# Altium schematic symbol library Driver_LED.SchLib: 124 symbols (part 2 of 2)
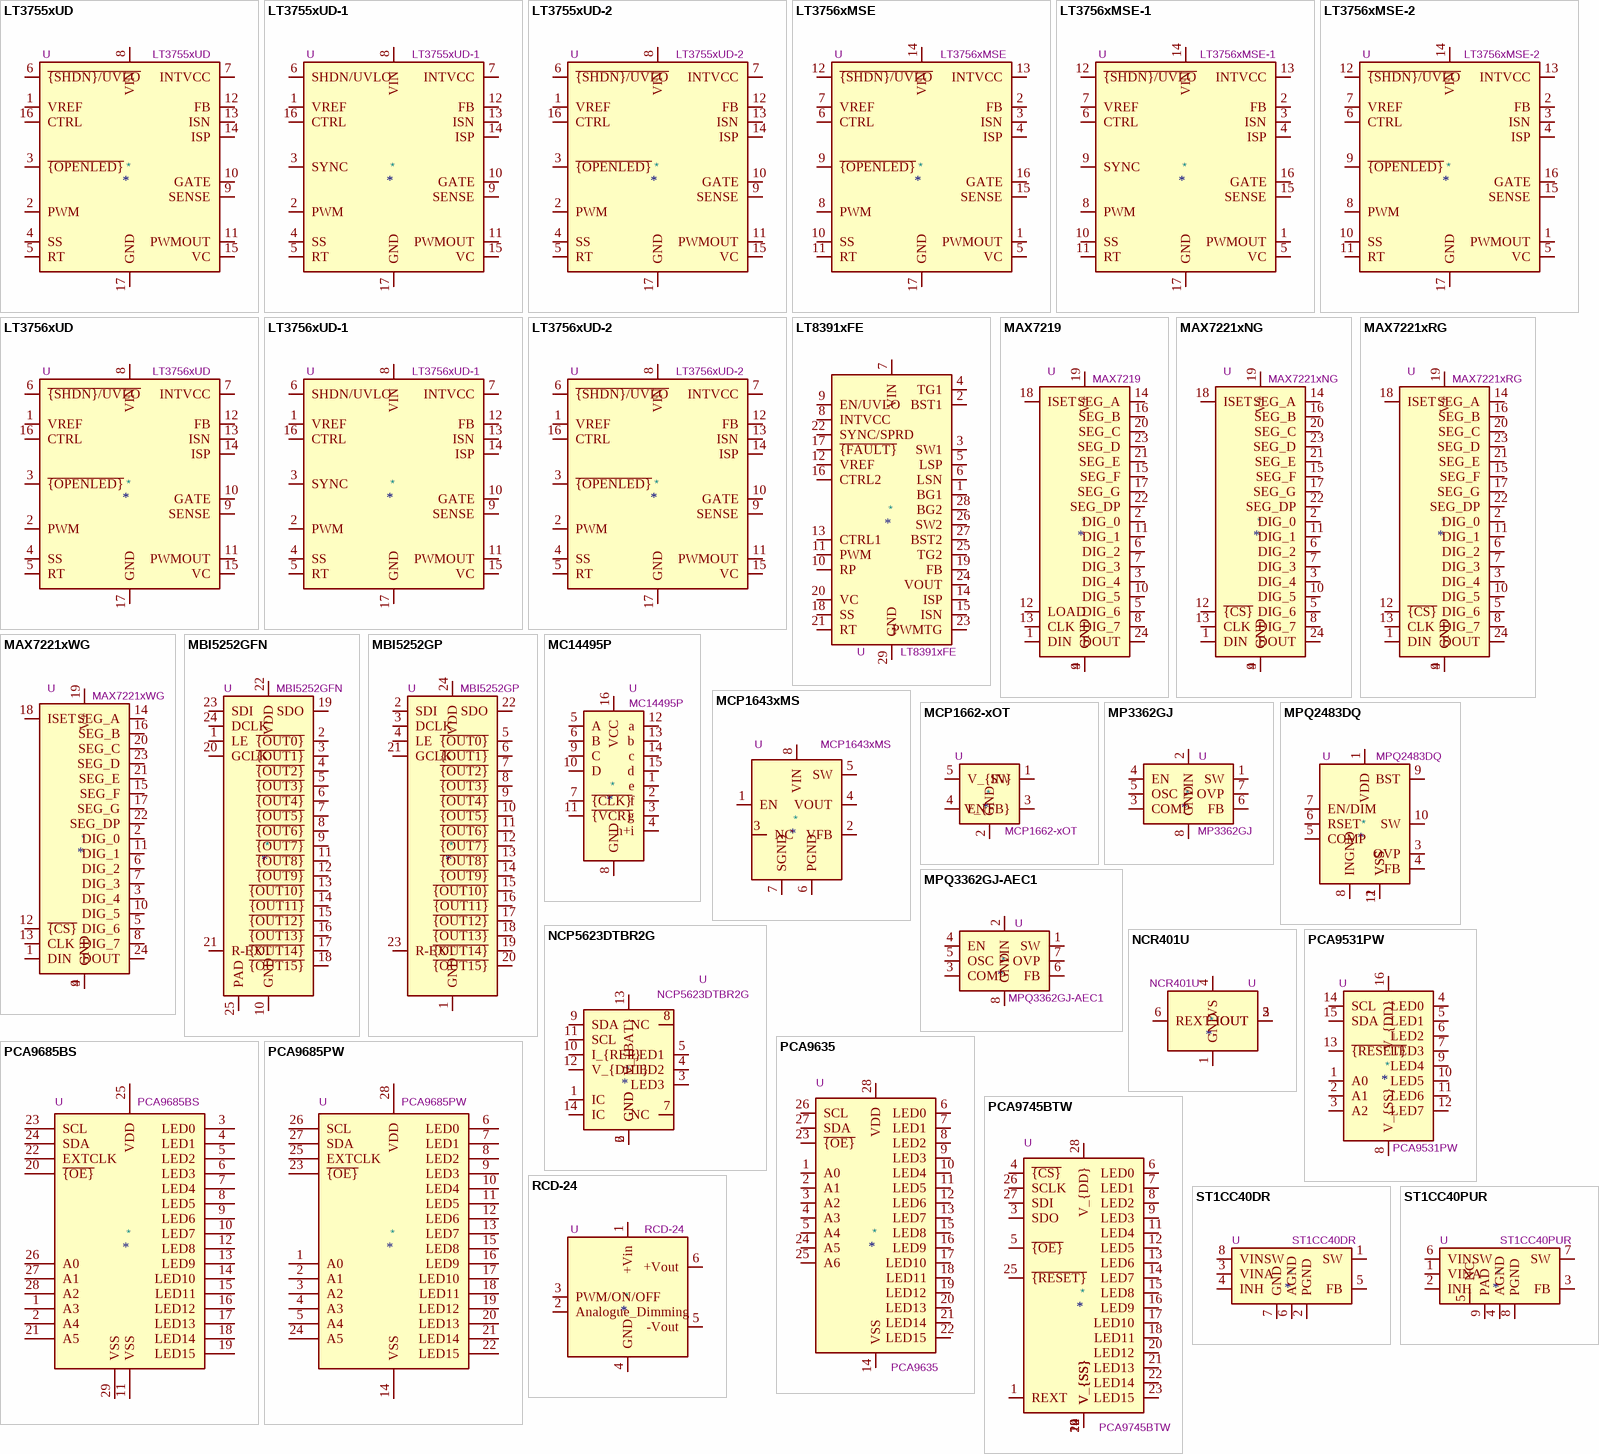
[diagram p5: symbols LT3755xUD to ST1CC40PUR]

## RCD-24
designator *  value RCD-24  Reference: U
LED Driver DC/DC Converter, input 4.5 to 36V, output current 0.3 to 1.2A; ki_keywords: Led Driver DC-DC; ki_fp_filters: Converter*DCDC*RECOM*RCD?24*; Footprint: Converter_DCDC:Converter_DCDC_RECOM_RCD-24_THT; Datasheet: https://g.recomcdn.com/media/Datasheet/pdf/.fYUQjOlW/.t2a80a771bdbb0ef300f7/Datasheet-93/RCD-24.pdf; Description_: LED Driver DC/DC Converter, input 4.5 to 36V, output current 0.3 to 1.2A
pins: 1 +Vin, 2 Analogue_Dimming, 3 PWM/ON/OFF, 4 GND, 5 -Vout, 6 +Vout

## ST1CC40DR
designator *  value ST1CC40DR  Reference: U
3A monolithic step-down current source with synchronous rectification, 3-18V Input Voltage, 850kHz, SO-8; ki_keywords: DC/DC Buck Conwerter 3A Low Voltage Input LED Lighting; ki_fp_filters: SOIC*3.9x4.9mm*P1.27mm*; Footprint: Package_SO:SOIC-8_3.9x4.9mm_P1.27mm; Datasheet: http://www.st.com/content/ccc/resource/technical/document/datasheet/group3/71/e8/26/3c/c8/cc/46/e6/CD00292360/files/CD00292360.pdf/jcr:content/translations/en.CD00292360.pdf; Description_: 3A monolithic step-down current source with synchronous rectification, 3-18V Input Voltage, 850kHz, SO-8
pins: 1 SW, 2 PGND, 3 VINA, 4 INH, 5 FB, 6 AGND, 7 GND, 8 VINSW

## ST1CC40PUR
designator *  value ST1CC40PUR  Reference: U
3A monolithic step-down current source with synchronous rectification, 3-18V Input Voltage, 850kHz, DFN-8; ki_keywords: DC/DC Buck Conwerter 3A Low Voltage Input LED Lighting; ki_fp_filters: DFN*1EP*4x4mm*P0.8mm*; Footprint: Package_DFN_QFN:DFN-8-1EP_4x4mm_P0.8mm_EP2.5x3.6mm; Datasheet: http://www.st.com/content/ccc/resource/technical/document/datasheet/group3/71/e8/26/3c/c8/cc/46/e6/CD00292360/files/CD00292360.pdf/jcr:content/translations/en.CD00292360.pdf; Description_: 3A monolithic step-down current source with synchronous rectification, 3-18V Input Voltage, 850kHz, DFN-8
pins: 1 VINA, 2 INH, 3 FB, 4 AGND, 5 NC, 6 VINSW, 7 SW, 8 PGND, 9 PAD

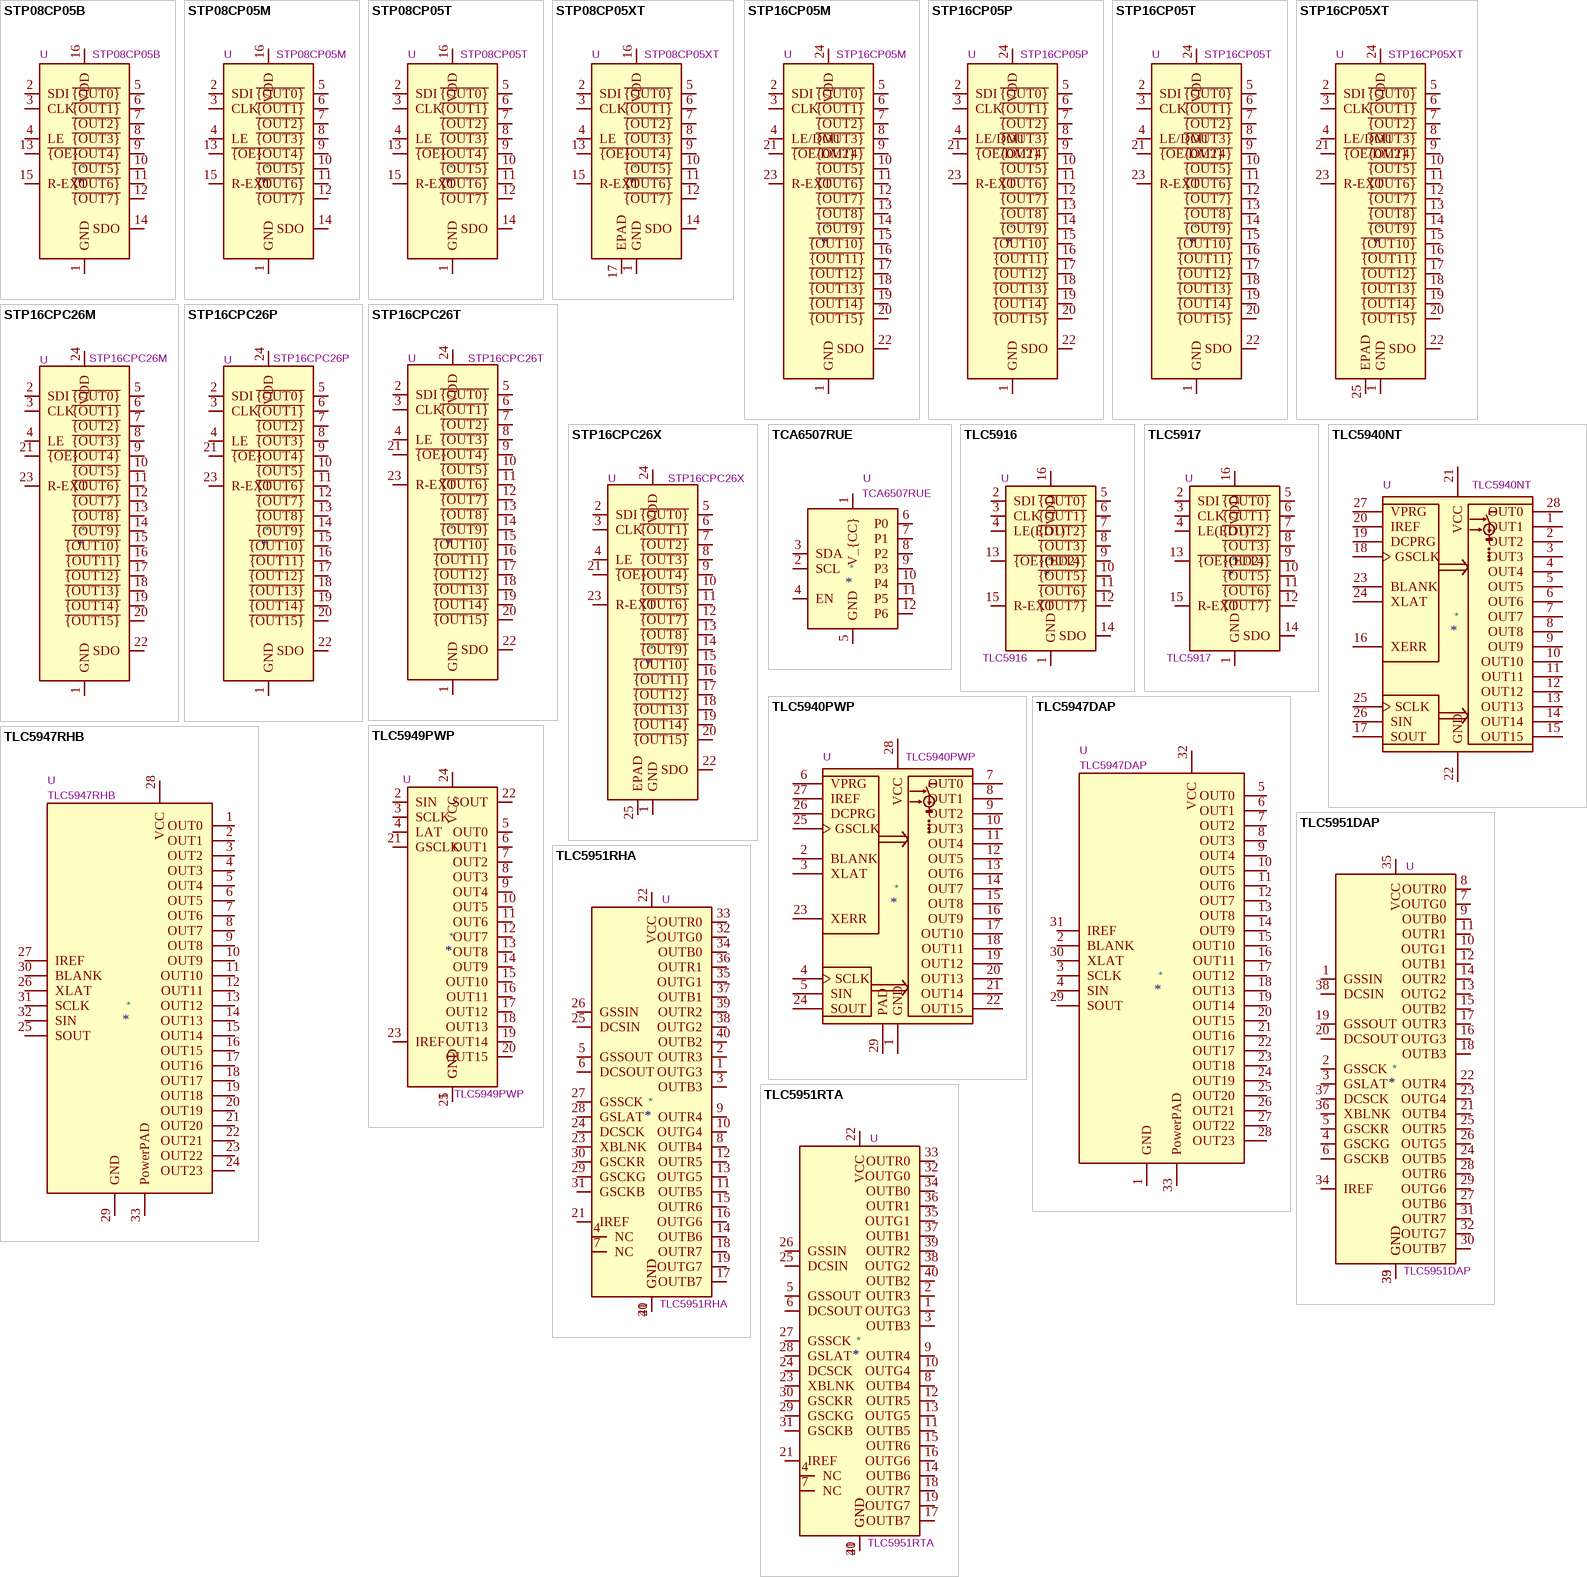
[diagram p3: symbols STP08CP05B to TLC5951RTA]

## STP08CP05B
designator *  value STP08CP05B  Reference: U
8-bit constant current LED sink driver, 5..100mA output current, 20V driving capability, 3.0..5.5V power supply, DIP-16; ki_keywords: Shift Register; ki_fp_filters: *DIP*W7.62mm*; Footprint: Package_DIP:DIP-16_W7.62mm; Datasheet: https://www.st.com/resource/en/datasheet/stp08cp05.pdf; Description_: 8-bit constant current LED sink driver, 5..100mA output current, 20V driving capability, 3.0..5.5V power supply, DIP-16
pins: 1 GND, 2 SDI, 3 CLK, 4 LE, 5 ~{{OUT0}}, 6 ~{{OUT1}}, 7 ~{{OUT2}}, 8 ~{{OUT3}}, 9 ~{{OUT4}}, 10 ~{{OUT5}}, 11 ~{{OUT6}}, 12 ~{{OUT7}}, 13 ~{{OE}}, 14 SDO, 15 R-EXT, 16 VDD

## STP08CP05M
designator *  value STP08CP05M  Reference: U
8-bit constant current LED sink driver, 5..100mA output current, 20V driving capability, 3.0..5.5V power supply, SOIC-16; ki_keywords: Shift Register; ki_fp_filters: *SOIC*3.9*9.9*P1.27mm*; Footprint: Package_SO:SOIC-16_3.9x9.9mm_P1.27mm; Datasheet: https://www.st.com/resource/en/datasheet/stp08cp05.pdf; Description_: 8-bit constant current LED sink driver, 5..100mA output current, 20V driving capability, 3.0..5.5V power supply, SOIC-16
pins: 1 GND, 2 SDI, 3 CLK, 4 LE, 5 ~{{OUT0}}, 6 ~{{OUT1}}, 7 ~{{OUT2}}, 8 ~{{OUT3}}, 9 ~{{OUT4}}, 10 ~{{OUT5}}, 11 ~{{OUT6}}, 12 ~{{OUT7}}, 13 ~{{OE}}, 14 SDO, 15 R-EXT, 16 VDD

## STP08CP05T
designator *  value STP08CP05T  Reference: U
8-bit constant current LED sink driver, 5..100mA output current, 20V driving capability, 3.0..5.5V power supply, TSSOP-16; ki_keywords: Shift Register; ki_fp_filters: *TSSOP*4.4*5**P0.65mm*; Footprint: Package_SO:TSSOP-16_4.4x5mm_P0.65mm; Datasheet: https://www.st.com/resource/en/datasheet/stp08cp05.pdf; Description_: 8-bit constant current LED sink driver, 5..100mA output current, 20V driving capability, 3.0..5.5V power supply, TSSOP-16
pins: 1 GND, 2 SDI, 3 CLK, 4 LE, 5 ~{{OUT0}}, 6 ~{{OUT1}}, 7 ~{{OUT2}}, 8 ~{{OUT3}}, 9 ~{{OUT4}}, 10 ~{{OUT5}}, 11 ~{{OUT6}}, 12 ~{{OUT7}}, 13 ~{{OE}}, 14 SDO, 15 R-EXT, 16 VDD

## STP08CP05XT
designator *  value STP08CP05XT  Reference: U
8-bit constant current LED sink driver, 5..100mA output current, 20V driving capability, 3.0..5.5V power supply, HTSSOP-16; ki_keywords: Shift Register; ki_fp_filters: HTSSOP*1EP*4.4*5*P0.65mm*EP3x3mm*; Footprint: Package_SO:HTSSOP-16-1EP_4.4x5mm_P0.65mm_EP3x3mm; Datasheet: https://www.st.com/resource/en/datasheet/stp08cp05.pdf; Description_: 8-bit constant current LED sink driver, 5..100mA output current, 20V driving capability, 3.0..5.5V power supply, HTSSOP-16
pins: 1 GND, 2 SDI, 3 CLK, 4 LE, 5 ~{{OUT0}}, 6 ~{{OUT1}}, 7 ~{{OUT2}}, 8 ~{{OUT3}}, 9 ~{{OUT4}}, 10 ~{{OUT5}}, 11 ~{{OUT6}}, 12 ~{{OUT7}}, 13 ~{{OE}}, 14 SDO, 15 R-EXT, 16 VDD, 17 EPAD

## STP16CP05M
designator *  value STP16CP05M  Reference: U
16-bit constant current LED sink driver, 5..100mA output current, 20V driving capability, 3.0..5.5V power supply, SOIC-24; ki_keywords: Shift Register; ki_fp_filters: *SOIC*7.5*15.*P1.27mm*; Footprint: Package_SO:SOIC-24W_7.5x15.4mm_P1.27mm; Datasheet: https://www.st.com/resource/en/datasheet/stp16cp05.pdf; Description_: 16-bit constant current LED sink driver, 5..100mA output current, 20V driving capability, 3.0..5.5V power supply, SOIC-24
pins: 1 GND, 2 SDI, 3 CLK, 4 LE/DM1, 5 ~{{OUT0}}, 6 ~{{OUT1}}, 7 ~{{OUT2}}, 8 ~{{OUT3}}, 9 ~{{OUT4}}, 10 ~{{OUT5}}, 11 ~{{OUT6}}, 12 ~{{OUT7}}, 13 ~{{OUT8}}, 14 ~{{OUT9}}, 15 ~{{OUT10}}, 16 ~{{OUT11}}, 17 ~{{OUT12}}, 18 ~{{OUT13}}, 19 ~{{OUT14}}, 20 ~{{OUT15}}, 21 ~{{OE/DM2}}, 22 SDO, 23 R-EXT, 24 VDD

## STP16CP05P
designator *  value STP16CP05P  Reference: U
16-bit constant current LED sink driver, 5..100mA output current, 20V driving capability, 3.0..5.5V power supply, QSOP-24; ki_keywords: Shift Register; ki_fp_filters: *QSOP*3.9*8.*P0.635mm*; Footprint: Package_SO:QSOP-24_3.9x8.7mm_P0.635mm; Datasheet: https://www.st.com/resource/en/datasheet/stp16cp05.pdf; Description_: 16-bit constant current LED sink driver, 5..100mA output current, 20V driving capability, 3.0..5.5V power supply, QSOP-24
pins: 1 GND, 2 SDI, 3 CLK, 4 LE/DM1, 5 ~{{OUT0}}, 6 ~{{OUT1}}, 7 ~{{OUT2}}, 8 ~{{OUT3}}, 9 ~{{OUT4}}, 10 ~{{OUT5}}, 11 ~{{OUT6}}, 12 ~{{OUT7}}, 13 ~{{OUT8}}, 14 ~{{OUT9}}, 15 ~{{OUT10}}, 16 ~{{OUT11}}, 17 ~{{OUT12}}, 18 ~{{OUT13}}, 19 ~{{OUT14}}, 20 ~{{OUT15}}, 21 ~{{OE/DM2}}, 22 SDO, 23 R-EXT, 24 VDD

## STP16CP05T
designator *  value STP16CP05T  Reference: U
16-bit constant current LED sink driver, 5..100mA output current, 20V driving capability, 3.0..5.5V power supply, SOIC-24; ki_keywords: Shift Register; ki_fp_filters: *TSSOP*4.4*7.8*P0.65mm*; Footprint: Package_SO:TSSOP-24_4.4x7.8mm_P0.65mm; Datasheet: https://www.st.com/resource/en/datasheet/stp16cp05.pdf; Description_: 16-bit constant current LED sink driver, 5..100mA output current, 20V driving capability, 3.0..5.5V power supply, SOIC-24
pins: 1 GND, 2 SDI, 3 CLK, 4 LE/DM1, 5 ~{{OUT0}}, 6 ~{{OUT1}}, 7 ~{{OUT2}}, 8 ~{{OUT3}}, 9 ~{{OUT4}}, 10 ~{{OUT5}}, 11 ~{{OUT6}}, 12 ~{{OUT7}}, 13 ~{{OUT8}}, 14 ~{{OUT9}}, 15 ~{{OUT10}}, 16 ~{{OUT11}}, 17 ~{{OUT12}}, 18 ~{{OUT13}}, 19 ~{{OUT14}}, 20 ~{{OUT15}}, 21 ~{{OE/DM2}}, 22 SDO, 23 R-EXT, 24 VDD

## STP16CP05XT
designator *  value STP16CP05XT  Reference: U
16-bit constant current LED sink driver, 5..100mA output current, 20V driving capability, 3.0..5.5V power supply, HTSSOP-24; ki_keywords: Shift-Register; ki_fp_filters: *HTSSOP*1EP*4.4*7.8*P0.65mm*EP3.2x5mm*; Footprint: Package_SO:HTSSOP-24-1EP_4.4x7.8mm_P0.65mm_EP3.2x5mm; Datasheet: https://www.st.com/resource/en/datasheet/stp16cp05.pdf; Description_: 16-bit constant current LED sink driver, 5..100mA output current, 20V driving capability, 3.0..5.5V power supply, HTSSOP-24
pins: 1 GND, 2 SDI, 3 CLK, 4 LE/DM1, 5 ~{{OUT0}}, 6 ~{{OUT1}}, 7 ~{{OUT2}}, 8 ~{{OUT3}}, 9 ~{{OUT4}}, 10 ~{{OUT5}}, 11 ~{{OUT6}}, 12 ~{{OUT7}}, 13 ~{{OUT8}}, 14 ~{{OUT9}}, 15 ~{{OUT10}}, 16 ~{{OUT11}}, 17 ~{{OUT12}}, 18 ~{{OUT13}}, 19 ~{{OUT14}}, 20 ~{{OUT15}}, 21 ~{{OE/DM2}}, 22 SDO, 23 R-EXT, 24 VDD, 25 EPAD

## STP16CPC26M
designator *  value STP16CPC26M  Reference: U
16-bit constant current LED sink driver, 5..90mA output current, 20V driving capability, 3..5.5V power supply, SOIC-24; ki_keywords: Shift Register; ki_fp_filters: *SOIC*7.5*15.*P1.27mm*; Footprint: Package_SO:SOIC-24W_7.5x15.4mm_P1.27mm; Datasheet: https://www.st.com/resource/en/datasheet/STP16CPC26.pdf; Description_: 16-bit constant current LED sink driver, 5..90mA output current, 20V driving capability, 3..5.5V power supply, SOIC-24
pins: 1 GND, 2 SDI, 3 CLK, 4 LE, 5 ~{{OUT0}}, 6 ~{{OUT1}}, 7 ~{{OUT2}}, 8 ~{{OUT3}}, 9 ~{{OUT4}}, 10 ~{{OUT5}}, 11 ~{{OUT6}}, 12 ~{{OUT7}}, 13 ~{{OUT8}}, 14 ~{{OUT9}}, 15 ~{{OUT10}}, 16 ~{{OUT11}}, 17 ~{{OUT12}}, 18 ~{{OUT13}}, 19 ~{{OUT14}}, 20 ~{{OUT15}}, 21 ~{{OE}}, 22 SDO, 23 R-EXT, 24 VDD

## STP16CPC26P
designator *  value STP16CPC26P  Reference: U
16-bit constant current LED sink driver, 5..90mA output current, 20V driving capability, 3..5.5V power supply, QSOP-24; ki_keywords: Shift Register; ki_fp_filters: *QSOP*3.9*8.*P0.635mm*; Footprint: Package_SO:QSOP-24_3.9x8.7mm_P0.635mm; Datasheet: https://www.st.com/resource/en/datasheet/STP16CPC26.pdf; Description_: 16-bit constant current LED sink driver, 5..90mA output current, 20V driving capability, 3..5.5V power supply, QSOP-24
pins: 1 GND, 2 SDI, 3 CLK, 4 LE, 5 ~{{OUT0}}, 6 ~{{OUT1}}, 7 ~{{OUT2}}, 8 ~{{OUT3}}, 9 ~{{OUT4}}, 10 ~{{OUT5}}, 11 ~{{OUT6}}, 12 ~{{OUT7}}, 13 ~{{OUT8}}, 14 ~{{OUT9}}, 15 ~{{OUT10}}, 16 ~{{OUT11}}, 17 ~{{OUT12}}, 18 ~{{OUT13}}, 19 ~{{OUT14}}, 20 ~{{OUT15}}, 21 ~{{OE}}, 22 SDO, 23 R-EXT, 24 VDD

## STP16CPC26T
designator *  value STP16CPC26T  Reference: U
16-bit constant current LED sink driver, 5..90mA output current, 20V driving capability, 3..5.5V power supply, TSSOP-24; ki_keywords: Shift Register; ki_fp_filters: *TSSOP*4.4*7.*P0.65mm*; Footprint: Package_SO:TSSOP-24_4.4x7.8mm_P0.65mm; Datasheet: https://www.st.com/resource/en/datasheet/STP16CPC26.pdf; Description_: 16-bit constant current LED sink driver, 5..90mA output current, 20V driving capability, 3..5.5V power supply, TSSOP-24
pins: 1 GND, 2 SDI, 3 CLK, 4 LE, 5 ~{{OUT0}}, 6 ~{{OUT1}}, 7 ~{{OUT2}}, 8 ~{{OUT3}}, 9 ~{{OUT4}}, 10 ~{{OUT5}}, 11 ~{{OUT6}}, 12 ~{{OUT7}}, 13 ~{{OUT8}}, 14 ~{{OUT9}}, 15 ~{{OUT10}}, 16 ~{{OUT11}}, 17 ~{{OUT12}}, 18 ~{{OUT13}}, 19 ~{{OUT14}}, 20 ~{{OUT15}}, 21 ~{{OE}}, 22 SDO, 23 R-EXT, 24 VDD

## STP16CPC26X
designator *  value STP16CPC26X  Reference: U
16-bit constant current LED sink driver, 5..90mA output current, 20V driving capability, 3..5.5V power supply, HTSSOP-24; ki_keywords: Shift-Register; ki_fp_filters: *HTSSOP*1EP*4.4*7.*P0.65*EP3.2x5mm*; Footprint: Package_SO:HTSSOP-24-1EP_4.4x7.8mm_P0.65mm_EP3.2x5mm; Datasheet: https://www.st.com/resource/en/datasheet/STP16CPC26.pdf; Description_: 16-bit constant current LED sink driver, 5..90mA output current, 20V driving capability, 3..5.5V power supply, HTSSOP-24
pins: 1 GND, 2 SDI, 3 CLK, 4 LE, 5 ~{{OUT0}}, 6 ~{{OUT1}}, 7 ~{{OUT2}}, 8 ~{{OUT3}}, 9 ~{{OUT4}}, 10 ~{{OUT5}}, 11 ~{{OUT6}}, 12 ~{{OUT7}}, 13 ~{{OUT8}}, 14 ~{{OUT9}}, 15 ~{{OUT10}}, 16 ~{{OUT11}}, 17 ~{{OUT12}}, 18 ~{{OUT13}}, 19 ~{{OUT14}}, 20 ~{{OUT15}}, 21 ~{{OE}}, 22 SDO, 23 R-EXT, 24 VDD, 25 EPAD

## TCA6507RUE
designator *  value TCA6507RUE  Reference: U
7-bit I2C/SMBus LED driver with intensity control, X2QFN-12; ki_keywords: led driver i2c 7-bit; ki_fp_filters: *X2QFN*RUE*; Footprint: Package_DFN_QFN:Texas_X2QFN-RUE-12_1.4x2mm_P0.4mm; Datasheet: https://www.ti.com/lit/gpn/tca6507; Description_: 7-bit I2C/SMBus LED driver with intensity control, X2QFN-12
pins: 1 V_{CC}, 2 SCL, 3 SDA, 4 EN, 5 GND, 6 P0, 7 P1, 8 P2, 9 P3, 10 P4, 11 P5, 12 P6

## TLC5916
designator *  value TLC5916  Reference: U
8-Channel Constant-Current LED Sink Driver; ki_keywords: LED Constant-Current Driver; ki_fp_filters: DIP*W7.62mm* SOIC*3.9x9.9mm*P1.27mm* TSSOP*4.4x5mm*P0.65mm*; Datasheet: https://www.ti.com/lit/ds/symlink/tlc5916.pdf; Description_: 8-Channel Constant-Current LED Sink Driver
pins: 1 GND, 2 SDI, 3 CLK, 4 LE(ED1), 5 ~{{OUT0}}, 6 ~{{OUT1}}, 7 ~{{OUT2}}, 8 ~{{OUT3}}, 9 ~{{OUT4}}, 10 ~{{OUT5}}, 11 ~{{OUT6}}, 12 ~{{OUT7}}, 13 ~{{OE}(ED2)}, 14 SDO, 15 R-EXT, 16 VDD

## TLC5917
designator *  value TLC5917  Reference: U
8-Channel Constant-Current LED Sink Driver, Short to VLED detection; ki_keywords: LED Constant-Current Driver; ki_fp_filters: DIP*W7.62mm* SOIC*3.9x9.9mm*P1.27mm* TSSOP*4.4x5mm*P0.65mm*; Datasheet: https://www.ti.com/lit/ds/symlink/tlc5917.pdf; Description_: 8-Channel Constant-Current LED Sink Driver, Short to VLED detection
pins: 1 GND, 2 SDI, 3 CLK, 4 LE(ED1), 5 ~{{OUT0}}, 6 ~{{OUT1}}, 7 ~{{OUT2}}, 8 ~{{OUT3}}, 9 ~{{OUT4}}, 10 ~{{OUT5}}, 11 ~{{OUT6}}, 12 ~{{OUT7}}, 13 ~{{OE}(ED2)}, 14 SDO, 15 R-EXT, 16 VDD

## TLC5940NT
designator *  value TLC5940NT  Reference: U
16-Channel LED Driver With DOT Correction and Grayscale PWM Control, DIP package; ki_keywords: PWM LED driver; ki_fp_filters: DIP*W7.62mm*; Footprint: Package_DIP:DIP-28_W7.62mm; Datasheet: http://www.ti.com/lit/ds/symlink/tlc5940.pdf; Description_: 16-Channel LED Driver With DOT Correction and Grayscale PWM Control, DIP package
pins: 1 OUT1, 2 OUT2, 3 OUT3, 4 OUT4, 5 OUT5, 6 OUT6, 7 OUT7, 8 OUT8, 9 OUT9, 10 OUT10, 11 OUT11, 12 OUT12, 13 OUT13, 14 OUT14, 15 OUT15, 16 XERR, 17 SOUT, 18 GSCLK, 19 DCPRG, 20 IREF, 21 VCC, 22 GND, 23 BLANK, 24 XLAT, 25 SCLK, 26 SIN, 27 VPRG, 28 OUT0

## TLC5940PWP
designator *  value TLC5940PWP  Reference: U
16-Channel LED Driver With DOT Correction and Grayscale PWM Control, TSSOP package with thermal pad; ki_keywords: PWM LED driver; ki_fp_filters: HTSSOP*4.4x9.7mm*P0.65mm*; Footprint: Package_SO:HTSSOP-28-1EP_4.4x9.7mm_P0.65mm_EP3.4x9.5mm_Mask2.4x6.17mm_ThermalVias; Datasheet: http://www.ti.com/lit/ds/symlink/tlc5940.pdf; Description_: 16-Channel LED Driver With DOT Correction and Grayscale PWM Control, TSSOP package with thermal pad
pins: 1 GND, 2 BLANK, 3 XLAT, 4 SCLK, 5 SIN, 6 VPRG, 7 OUT0, 8 OUT1, 9 OUT2, 10 OUT3, 11 OUT4, 12 OUT5, 13 OUT6, 14 OUT7, 15 OUT8, 16 OUT9, 17 OUT10, 18 OUT11, 19 OUT12, 20 OUT13, 21 OUT14, 22 OUT15, 23 XERR, 24 SOUT, 25 GSCLK, 26 DCPRG, 27 IREF, 28 VCC, 29 PAD

## TLC5947DAP
designator *  value TLC5947DAP  Reference: U
24-Channel, 12-Bit PWM LED Driver, HTSSOP; ki_keywords: PWM LED driver HTSSOP; ki_fp_filters: HTSSOP*; Footprint: Package_SO:HTSSOP-32-1EP_6.1x11mm_P0.65mm_EP5.2x11mm_Mask4.11x4.36mm_ThermalVias; Datasheet: http://www.ti.com/lit/ds/symlink/tlc5947.pdf; Description_: 24-Channel, 12-Bit PWM LED Driver, HTSSOP
pins: 1 GND, 2 BLANK, 3 SCLK, 4 SIN, 5 OUT0, 6 OUT1, 7 OUT2, 8 OUT3, 9 OUT4, 10 OUT5, 11 OUT6, 12 OUT7, 13 OUT8, 14 OUT9, 15 OUT10, 16 OUT11, 17 OUT12, 18 OUT13, 19 OUT14, 20 OUT15, 21 OUT16, 22 OUT17, 23 OUT18, 24 OUT19, 25 OUT20, 26 OUT21, 27 OUT22, 28 OUT23, 29 SOUT, 30 XLAT, 31 IREF, 32 VCC, 33 PowerPAD

## TLC5947RHB
designator *  value TLC5947RHB  Reference: U
24-Channel, 12-Bit PWM LED Driver, QFN; ki_keywords: PWM LED driver QFN; ki_fp_filters: QFN*5x5mm*; Footprint: Package_DFN_QFN:QFN-32-1EP_5x5mm_P0.5mm_EP3.45x3.45mm; Datasheet: http://www.ti.com/lit/ds/symlink/tlc5947.pdf; Description_: 24-Channel, 12-Bit PWM LED Driver, QFN
pins: 1 OUT0, 2 OUT1, 3 OUT2, 4 OUT3, 5 OUT4, 6 OUT5, 7 OUT6, 8 OUT7, 9 OUT8, 10 OUT9, 11 OUT10, 12 OUT11, 13 OUT12, 14 OUT13, 15 OUT14, 16 OUT15, 17 OUT16, 18 OUT17, 19 OUT18, 20 OUT19, 21 OUT20, 22 OUT21, 23 OUT22, 24 OUT23, 25 SOUT, 26 XLAT, 27 IREF, 28 VCC, 29 GND, 30 BLANK, 31 SCLK, 32 SIN, 33 PowerPAD

## TLC5949PWP
designator *  value TLC5949PWP  Reference: U
16-channel, 12-bit ES-PWM, constant-current sink LED driver, HTSSOP-24; ki_keywords: Texas-Instruments; ki_fp_filters: *HTSSOP*1EP?4.4x7.8mm?P0.65mm*Mask2.44x3.42mm*; Footprint: Package_SO:HTSSOP-24-1EP_4.4x7.8mm_P0.65mm_EP3.4x7.8mm_Mask2.44x3.42mm_ThermalVias; Datasheet: https://www.ti.com/lit/ds/symlink/tlc5949.pdf; Description_: 16-channel, 12-bit ES-PWM, constant-current sink LED driver, HTSSOP-24
pins: 1 GND, 2 SIN, 3 SCLK, 4 LAT, 5 OUT0, 6 OUT1, 7 OUT2, 8 OUT3, 9 OUT4, 10 OUT5, 11 OUT6, 12 OUT7, 13 OUT8, 14 OUT9, 15 OUT10, 16 OUT11, 17 OUT12, 18 OUT13, 19 OUT14, 20 OUT15, 21 GSCLK, 22 SOUT, 23 IREF, 24 VCC, 25 GND

## TLC5951DAP
designator *  value TLC5951DAP  Reference: U
24-Channel, 12-Bit PWM LED Driver With 7-Bit Dot Correction and 3-Group, 8-Bit Global Brightness Control, HTSSOP-38; ki_fp_filters: HTSSOP*1EP*6.1x12.5mm*P0.65mm*; Footprint: Package_SO:HTSSOP-38-1EP_6.1x12.5mm_P0.65mm_EP5.2x12.5mm_Mask3.39x6.35mm_ThermalVias; Datasheet: http://www.ti.com/lit/ds/symlink/tlc5951.pdf; Description_: 24-Channel, 12-Bit PWM LED Driver With 7-Bit Dot Correction and 3-Group, 8-Bit Global Brightness Control, HTSSOP-38; ki_keywords: led driver
pins: 1 GSSIN, 2 GSSCK, 3 GSLAT, 4 GSCKG, 5 GSCKR, 6 GSCKB, 7 OUTG0, 8 OUTR0, 9 OUTB0, 10 OUTG1, 11 OUTR1, 12 OUTB1, 13 OUTG2, 14 OUTR2, 15 OUTB2, 16 OUTG3, 17 OUTR3, 18 OUTB3, 19 GSSOUT, 20 DCSOUT, 21 OUTB4, 22 OUTR4, 23 OUTG4, 24 OUTB5, 25 OUTR5, 26 OUTG5, 27 OUTB6, 28 OUTR6, 29 OUTG6, 30 OUTB7, 31 OUTR7, 32 OUTG7, 33 GND, 34 IREF, 35 VCC, 36 XBLNK, 37 DCSCK, 38 DCSIN, 39 GND

## TLC5951RHA
designator *  value TLC5951RHA  Reference: U
24-Channel, 12-Bit PWM LED Driver With 7-Bit Dot Correction and 3-Group, 8-Bit Global Brightness Control, Texas S-PVQFN-N40; ki_fp_filters: Texas*RHA0040B*; Footprint: Package_DFN_QFN:Texas_RHA0040B_VQFN-40-1EP_6x6mm_P0.5mm_EP4.15x4.15mm_ThermalVias; Datasheet: http://www.ti.com/lit/ds/symlink/tlc5951.pdf; Description_: 24-Channel, 12-Bit PWM LED Driver With 7-Bit Dot Correction and 3-Group, 8-Bit Global Brightness Control, Texas S-PVQFN-N40; ki_keywords: led driver
pins: 1 OUTG3, 2 OUTR3, 3 OUTB3, 4 NC, 5 GSSOUT, 6 DCSOUT, 7 NC, 8 OUTB4, 9 OUTR4, 10 OUTG4, 11 OUTB5, 12 OUTR5, 13 OUTG5, 14 OUTB6, 15 OUTR6, 16 OUTG6, 17 OUTB7, 18 OUTR7, 19 OUTG7, 20 GND, 21 IREF, 22 VCC, 23 XBLNK, 24 DCSCK, 25 DCSIN, 26 GSSIN, 27 GSSCK, 28 GSLAT, 29 GSCKG, 30 GSCKR, 31 GSCKB, 32 OUTG0, 33 OUTR0, 34 OUTB0, 35 OUTG1, 36 OUTR1, 37 OUTB1, 38 OUTG2, 39 OUTR2, 40 OUTB2, 41 GND

## TLC5951RTA
designator *  value TLC5951RTA  Reference: U
24-Channel, 12-Bit PWM LED Driver With 7-Bit Dot Correction and 3-Group, 8-Bit Global Brightness Control, Texas S-PVQFN-N40; ki_fp_filters: Texas*RHA0040B*; Footprint: Package_DFN_QFN:Texas_RHA0040B_VQFN-40-1EP_6x6mm_P0.5mm_EP4.15x4.15mm_ThermalVias; Datasheet: http://www.ti.com/lit/ds/symlink/tlc5951.pdf; Description_: 24-Channel, 12-Bit PWM LED Driver With 7-Bit Dot Correction and 3-Group, 8-Bit Global Brightness Control, Texas S-PVQFN-N40; ki_keywords: led driver
pins: 1 OUTG3, 2 OUTR3, 3 OUTB3, 4 NC, 5 GSSOUT, 6 DCSOUT, 7 NC, 8 OUTB4, 9 OUTR4, 10 OUTG4, 11 OUTB5, 12 OUTR5, 13 OUTG5, 14 OUTB6, 15 OUTR6, 16 OUTG6, 17 OUTB7, 18 OUTR7, 19 OUTG7, 20 GND, 21 IREF, 22 VCC, 23 XBLNK, 24 DCSCK, 25 DCSIN, 26 GSSIN, 27 GSSCK, 28 GSLAT, 29 GSCKG, 30 GSCKR, 31 GSCKB, 32 OUTG0, 33 OUTR0, 34 OUTB0, 35 OUTG1, 36 OUTR1, 37 OUTB1, 38 OUTG2, 39 OUTR2, 40 OUTB2, 41 GND

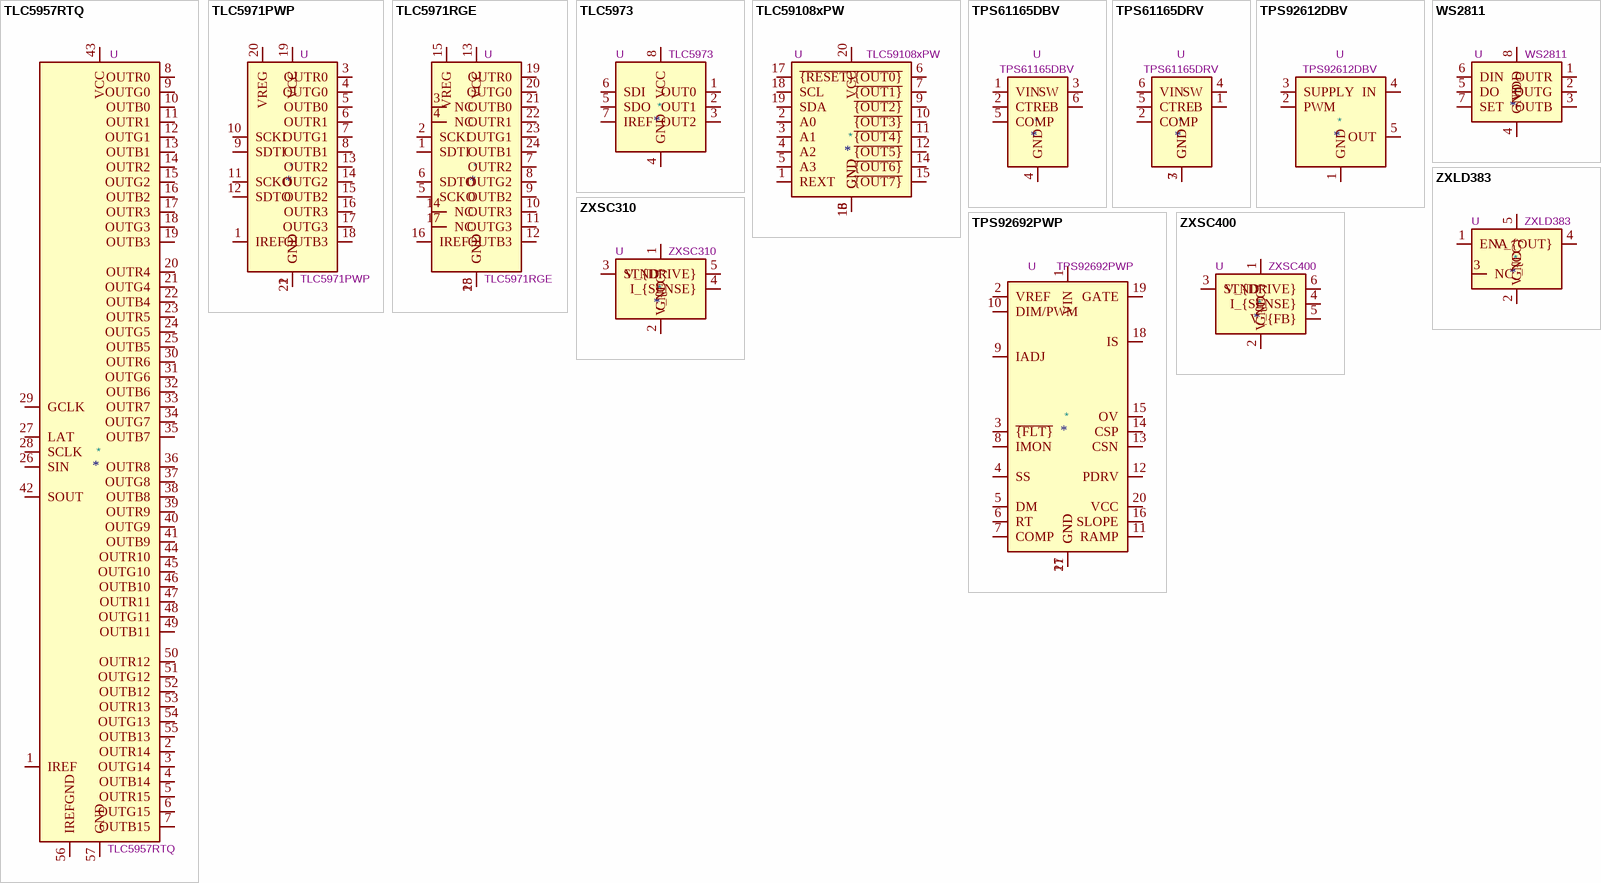
[diagram p4: symbols TLC5957RTQ to ZXSC400]

## TLC5957RTQ
designator *  value TLC5957RTQ  Reference: U
48-channel, 16bit ES-PWM LED driver with Pre-charge FET, LED OPEN Detection and Caterpillar Cancelling, QFN-56; ki_fp_filters: QFN*1EP*8x8mm*P0.5mm*; Footprint: Package_DFN_QFN:QFN-56-1EP_8x8mm_P0.5mm_EP5.6x5.6mm_ThermalVias; Datasheet: http://www.ti.com/lit/ds/symlink/tlc5957.pdf; Description_: 48-channel, 16bit ES-PWM LED driver with Pre-charge FET, LED OPEN Detection and Caterpillar Cancelling, QFN-56; ki_keywords: led driver
pins: 1 IREF, 2 OUTR14, 3 OUTG14, 4 OUTB14, 5 OUTR15, 6 OUTG15, 7 OUTB15, 8 OUTR0, 9 OUTG0, 10 OUTB0, 11 OUTR1, 12 OUTG1, 13 OUTB1, 14 OUTR2, 15 OUTG2, 16 OUTB2, 17 OUTR3, 18 OUTG3, 19 OUTB3, 20 OUTR4, 21 OUTG4, 22 OUTB4, 23 OUTR5, 24 OUTG5, 25 OUTB5, 26 SIN, 27 LAT, 28 SCLK, 29 GCLK, 30 OUTR6, 31 OUTG6, 32 OUTB6, 33 OUTR7, 34 OUTG7, 35 OUTB7, 36 OUTR8, 37 OUTG8, 38 OUTB8, 39 OUTR9, 40 OUTG9, 41 OUTB9, 42 SOUT, 43 VCC, 44 OUTR10, 45 OUTG10, 46 OUTB10, 47 OUTR11, 48 OUTG11, 49 OUTB11, 50 OUTR12, 51 OUTG12, 52 OUTB12, 53 OUTR13, 54 OUTG13, 55 OUTB13, 56 IREFGND, 57 GND

## TLC5971PWP
designator *  value TLC5971PWP  Reference: U
12-Channel, 16-Bit, Enhanced Spectrum, PWM, RGB, LED Driver With 3.3-V Linear Regulator, HTSSOP-20; ki_fp_filters: HTSSOP*1EP*4.4x6.5mm*P0.65mm*; Footprint: Package_SO:HTSSOP-20-1EP_4.4x6.5mm_P0.65mm_EP3.4x6.5mm_Mask2.75x3.43mm_ThermalVias; Datasheet: http://www.ti.com/lit/ds/symlink/tlc5971.pdf; Description_: 12-Channel, 16-Bit, Enhanced Spectrum, PWM, RGB, LED Driver With 3.3-V Linear Regulator, HTSSOP-20; ki_keywords: led driver
pins: 1 IREF, 2 GND, 3 OUTR0, 4 OUTG0, 5 OUTB0, 6 OUTR1, 7 OUTG1, 8 OUTB1, 9 SDTI, 10 SCKI, 11 SCKO, 12 SDTO, 13 OUTR2, 14 OUTG2, 15 OUTB2, 16 OUTR3, 17 OUTG3, 18 OUTB3, 19 VCC, 20 VREG, 21 GND

## TLC5971RGE
designator *  value TLC5971RGE  Reference: U
12-Channel, 16-Bit, Enhanced Spectrum, PWM, RGB, LED Driver With 3.3-V Linear Regulator, VQFN-24; ki_fp_filters: Texas*RGE0024H*; Footprint: Package_DFN_QFN:Texas_RGE0024H_VQFN-24-1EP_4x4mm_P0.5mm_EP2.7x2.7mm_ThermalVias; Datasheet: http://www.ti.com/lit/ds/symlink/tlc5971.pdf; Description_: 12-Channel, 16-Bit, Enhanced Spectrum, PWM, RGB, LED Driver With 3.3-V Linear Regulator, VQFN-24; ki_keywords: led driver
pins: 1 SDTI, 2 SCKI, 3 NC, 4 NC, 5 SCKO, 6 SDTO, 7 OUTR2, 8 OUTG2, 9 OUTB2, 10 OUTR3, 11 OUTG3, 12 OUTB3, 13 VCC, 14 NC, 15 VREG, 16 IREF, 17 NC, 18 GND, 19 OUTR0, 20 OUTG0, 21 OUTB0, 22 OUTR1, 23 OUTG1, 24 OUTB1, 25 GND

## TLC5973
designator *  value TLC5973  Reference: U
3 Channel 12bit PWM constant currend LED Driver with single wire interface; ki_keywords: LED current driver 12bit PWM; ki_fp_filters: SOIC*3.9x4.9mm*P1.27mm*; Footprint: Package_SO:SOIC-8_3.9x4.9mm_P1.27mm; Datasheet: http://www.ti.com/lit/ds/symlink/tlc5973.pdf; Description_: 3 Channel 12bit PWM constant currend LED Driver with single wire interface
pins: 1 OUT0, 2 OUT1, 3 OUT2, 4 GND, 5 SDO, 6 SDI, 7 IREF, 8 VCC

## TLC59108xPW
designator *  value TLC59108xPW  Reference: U
8-Channel, 8-Bit Fm+ I2C-Bus Constant-Current LED Sink Driver, TSSOP-20; ki_keywords: LED current driver; ki_fp_filters: TSSOP*4.4x6.5mm*P0.65mm*; Footprint: Package_SO:TSSOP-20_4.4x6.5mm_P0.65mm; Datasheet: https://www.ti.com/lit/ds/symlink/tlc59108.pdf; Description_: 8-Channel, 8-Bit Fm+ I2C-Bus Constant-Current LED Sink Driver, TSSOP-20
pins: 1 REXT, 2 A0, 3 A1, 4 A2, 5 A3, 6 ~{{OUT0}}, 7 ~{{OUT1}}, 8 GND, 9 ~{{OUT2}}, 10 ~{{OUT3}}, 11 ~{{OUT4}}, 12 ~{{OUT5}}, 13 GND, 14 ~{{OUT6}}, 15 ~{{OUT7}}, 16 GND, 17 ~{{RESET}}, 18 SCL, 19 SDA, 20 VCC

## TPS61165DBV
designator *  value TPS61165DBV  Reference: U
High-Brightness, White LED Driver, 3V to 18V input voltage range, internal switch, constant current, up to 38V/1.2A output, SOT-23-6; ki_keywords: LED-backlight-display-driver PWM EasyScale-protocol; ki_fp_filters: SOT?23*; Footprint: Package_TO_SOT_SMD:SOT-23-6; Datasheet: https://www.ti.com/lit/ds/symlink/tps61165.pdf; Description_: High-Brightness, White LED Driver, 3V to 18V input voltage range, internal switch, constant current, up to 38V/1.2A output, SOT-23-6
pins: 1 VIN, 2 CTRL, 3 SW, 4 GND, 5 COMP, 6 FB

## TPS61165DRV
designator *  value TPS61165DRV  Reference: U
High-Brightness, White LED Driver, 3V to 18V input voltage range, internal switch, constant current, up to 38V/1.2A output, WSON-6; ki_keywords: LED-backlight-display-driver PWM EasyScale-protocol; ki_fp_filters: *WSON*2x2mm*P0.65mm*; Footprint: Package_SON:WSON-6-1EP_2x2mm_P0.65mm_EP1x1.6mm; Datasheet: https://www.ti.com/lit/ds/symlink/tps61165.pdf; Description_: High-Brightness, White LED Driver, 3V to 18V input voltage range, internal switch, constant current, up to 38V/1.2A output, WSON-6
pins: 1 FB, 2 COMP, 3 GND, 4 SW, 5 CTRL, 6 VIN, 7 GND

## TPS92612DBV
designator *  value TPS92612DBV  Reference: U
Constant current LED Driver, 4.5V to 40V input voltage range, up to 40V/150mA output,  SOT-23-5; ki_keywords: led driver PWM; ki_fp_filters: SOT?23*; Footprint: Package_TO_SOT_SMD:SOT-23-5; Datasheet: https://www.ti.com/lit/ds/symlink/tps92612.pdf; Description_: Constant current LED Driver, 4.5V to 40V input voltage range, up to 40V/150mA output,  SOT-23-5
pins: 1 GND, 2 PWM, 3 SUPPLY, 4 IN, 5 OUT

## TPS92692PWP
designator *  value TPS92692PWP  Reference: U
LED Driver Buck Boost Sepic Flyback, Input 4.5-65V, with PWM Dimming, HTSSOP-20; ki_keywords: LED Driver Buck Boost Sepic Flyback PWM Dimming; ki_fp_filters: HTSSOP*1EP*4.4x6.5mm*P0.65mm*; Footprint: Package_SO:HTSSOP-20-1EP_4.4x6.5mm_P0.65mm_EP3.4x6.5mm_Mask2.4x3.7mm; Datasheet: https://www.ti.com/lit/ds/symlink/tps92692-q1.pdf; Description_: LED Driver Buck Boost Sepic Flyback, Input 4.5-65V, with PWM Dimming, HTSSOP-20
pins: 1 VIN, 2 VREF, 3 ~{{FLT}}, 4 SS, 5 DM, 6 RT, 7 COMP, 8 IMON, 9 IADJ, 10 DIM/PWM, 11 RAMP, 12 PDRV, 13 CSN, 14 CSP, 15 OV, 16 SLOPE, 17 GND, 18 IS, 19 GATE, 20 VCC, 21 GND

## WS2811
designator *  value WS2811  Reference: U
3-Channel 8-Bit PWM LED Driver, DIP-8/SOIC-8; ki_fp_filters: DIP*W7.62mm* SOIC*3.9x4.9mm*P1.27mm*; Datasheet: https://cdn-shop.adafruit.com/datasheets/WS2811.pdf; Description_: 3-Channel 8-Bit PWM LED Driver, DIP-8/SOIC-8; ki_keywords: PWM LED driver
pins: 1 OUTR, 2 OUTG, 3 OUTB, 4 GND, 5 DO, 6 DIN, 7 SET, 8 VDD

## ZXLD383
designator *  value ZXLD383  Reference: U
LED Driver Boost Converter, PFM controlled, operating frequency 330kHz (Vled = 3.5V), TSOT-23-5; ki_keywords: Zetex LCD-backlighting LED-Flashlight; ki_fp_filters: TSOT?23?5*; Footprint: Package_TO_SOT_SMD:TSOT-23-5; Datasheet: https://www.diodes.com/assets/Datasheets/ZXLD383.pdf; Description_: LED Driver Boost Converter, PFM controlled, operating frequency 330kHz (Vled = 3.5V), TSOT-23-5
pins: 1 ENA, 2 GND, 3 NC, 4 V_{OUT}, 5 V_{CC}

## ZXSC310
designator *  value ZXSC310  Reference: U
LED Driver Boost Converter, PFM controlled, up to 200kHz, SOT-23-5; ki_keywords: Zetex LCD-backlighting LED-flashlight; ki_fp_filters: SOT?23?5*; Footprint: Package_TO_SOT_SMD:SOT-23-5; Datasheet: https://www.diodes.com/assets/Datasheets/ZXSC310.pdf; Description_: LED Driver Boost Converter, PFM controlled, up to 200kHz, SOT-23-5
pins: 1 V_{CC}, 2 GND, 3 STND, 4 I_{SENSE}, 5 V_{DRIVE}

## ZXSC400
designator *  value ZXSC400  Reference: U
LED Driver Boost Converter, PFM controlled, maximum operating frequency 200kHz, SOT-23-6; ki_keywords: Zetex LCD-backlighting LED-Flashlight; ki_fp_filters: SOT?23?6*; Footprint: Package_TO_SOT_SMD:SOT-23-6; Datasheet: https://www.diodes.com/assets/Datasheets/ZXSC400.pdf; Description_: LED Driver Boost Converter, PFM controlled, maximum operating frequency 200kHz, SOT-23-6
pins: 1 V_{CC}, 2 GND, 3 STND, 4 I_{SENSE}, 5 V_{FB}, 6 V_{DRIVE}